# Altium footprint library CSM.PcbLib: 1 footprints
Each footprint in its own frame and in the unit in brackets; x right, y up, seen from the top. Pads: shape width x height; smd on the part's side, far side on the other; paste and mask are expansions set on the pad; w line width, h text height; cw(c..) or ccw(c..) is an arc to the next point about the centre after c.
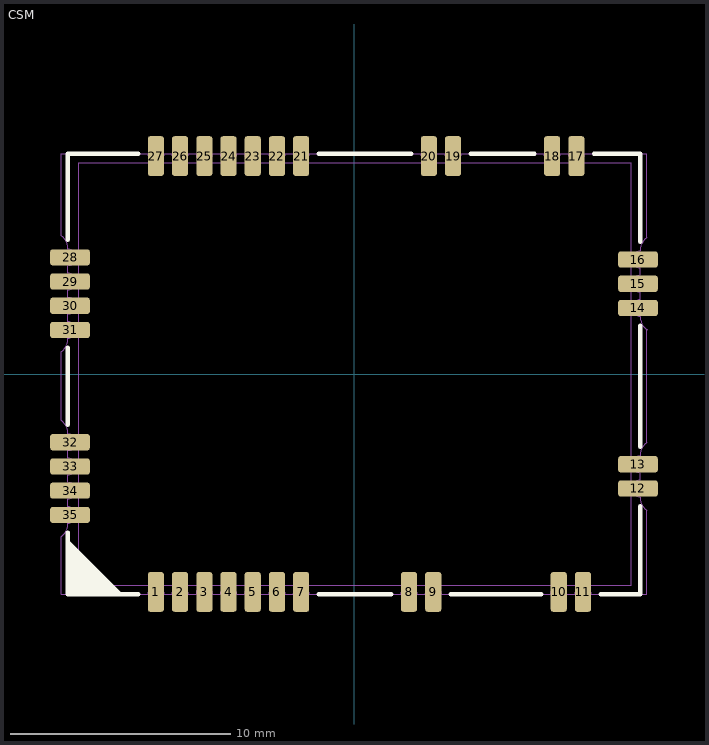
[diagram p0: the footprint, top view; thin cyan lines are the x and y axes]

## CSM [mm]
height 11
pads (35):
  rrect30% 0.73x1.8 smd: 1(-9,-9.9) 2(-7.9,-9.9) 3(-6.8,-9.9) 4(-5.7,-9.9) 5(-4.6,-9.9) 6(-3.5,-9.9) 7(-2.4,-9.9) 8(2.5,-9.9) 9(3.6,-9.9) 10(9.3,-9.9) 11(10.4,-9.9) 17(10.1,9.9) 18(9,9.9) 19(4.5,9.9) 20(3.4,9.9) 21(-2.4,9.9) 22(-3.5,9.9) 23(-4.6,9.9) 24(-5.7,9.9) 25(-6.8,9.9) 26(-7.9,9.9) 27(-9,9.9)
  rrect30% 1.8x0.73 smd: 12(12.9,-5.2) 13(12.9,-4.1) 14(12.9,3) 15(12.9,4.1) 16(12.9,5.2) 28(-12.9,5.3) 29(-12.9,4.2) 30(-12.9,3.1) 31(-12.9,2) 32(-12.9,-3.1) 33(-12.9,-4.2) 34(-12.9,-5.3) 35(-12.9,-6.4)
Top Overlay:
  region: -13,-10 -13,-7.5 -10.5,-10
  lines w0.2: -13,-7.2 -13,-10 -9.8,-10 ; -13,-2.3 -13,1.2 ; -13,6.1 -13,10 -9.8,10 ; -1.6,-10 1.7,-10 ; -1.6,10 2.6,10 ; 4.4,-10 8.5,-10 ; 5.3,10 8.2,10 ; 10.9,10 13,10 13,6 ; 11.2,-10 13,-10 13,-6 ; 13,-3.3 13,2.2
Mechanical 13 (Mech13):
  lines w0.01: -13.301,-7.385 ccw(c-13.727,-6.796) -13,-6.796 ; -13.301,1.015 ccw(c-13.727,1.604) -13,1.604 ; -13.3,-7.384 -13.3,-10 -9.375,-10 cw(c-9,-10) -8.625,-10 -8.275,-10 cw(c-7.9,-10) -7.525,-10 -7.175,-10 cw(c-6.8,-10) -6.425,-10 -6.075,-10 cw(c-5.7,-10) -5.325,-10 -4.975,-10 cw(c-4.6,-10) -4.225,-10 -3.875,-10 cw(c-3.5,-10) -3.125,-10 -2.775,-10 cw(c-2.4,-10) -2.025,-10 2.125,-10 cw(c2.5,-10) 2.875,-10 3.225,-10 cw(c3.6,-10) 3.975,-10 8.925,-10 cw(c9.3,-10) 9.675,-10 10.025,-10 cw(c10.4,-10) 10.775,-10 13.3,-10 13.3,-6.188 ; -13.3,1.016 -13.3,-2.112 cw(c-13.727,-2.7) -13,-2.7 -13,-2.725 cw(c-13,-3.1) -13,-3.475 -13,-3.825 cw(c-13,-4.2) -13,-4.575 -13,-4.925 cw(c-13,-5.3) -13,-5.675 -13,-6.025 cw(c-13,-6.4) -13,-6.775 -13,-6.795 ; -13,1.605 -13,1.625 ccw(c-13,2) -13,2.375 -13,2.725 ccw(c-13,3.1) -13,3.475 -13,3.825 ccw(c-13,4.2) -13,4.575 -13,4.925 ccw(c-13,5.3) -13,5.675 -13,5.7 ccw(c-13.727,5.7) -13.3,6.288 -13.3,10 -9.38,10 ; -9.375,10 ccw(c-9,10) -8.625,10 -8.275,10 ccw(c-7.9,10) -7.525,10 -7.175,10 ccw(c-6.8,10) -6.425,10 -6.075,10 ccw(c-5.7,10) -5.325,10 -4.975,10 ccw(c-4.6,10) -4.225,10 -3.875,10 ccw(c-3.5,10) -3.125,10 -2.775,10 ccw(c-2.4,10) -2.025,10 3.025,10 ccw(c3.4,10) 3.775,10 4.125,10 ccw(c4.5,10) 4.875,10 8.625,10 ccw(c9,10) 9.375,10 9.725,10 ccw(c10.1,10) 10.475,10 13.3,10 13.3,6.184 ; 13,-3.705 13,-3.725 ccw(c13,-4.1) 13,-4.475 13,-4.825 ccw(c13,-5.2) 13,-5.575 13,-5.6 ccw(c13.727,-5.6) 13.3,-6.188 ; 13,-3.704 cw(c13.727,-3.704) 13.301,-3.115 ; 13.3,-3.116 13.3,2.012 ; 13.301,6.185 ccw(c13.727,5.596) 13,5.596 13,5.575 ccw(c13,5.2) 13,4.825 13,4.475 ccw(c13,4.1) 13,3.725 13,3.375 ccw(c13,3) 13,2.625 13,2.6 ccw(c13.727,2.6) 13.311,2.004 ; -12.5,-9.6 12.6,-9.6 12.6,9.6 -12.5,9.6 -12.5,-9.6
  text "1" at -9.86,-8.72 h1.59
3D body "nv08c_csm_asm_3D_model.stp": height 2.96, standoff -0.1, extent -13,-10 13,10